# Altium integrated library PLD Supported Devices.IntLib: 344 symbols (part 6 of 6)
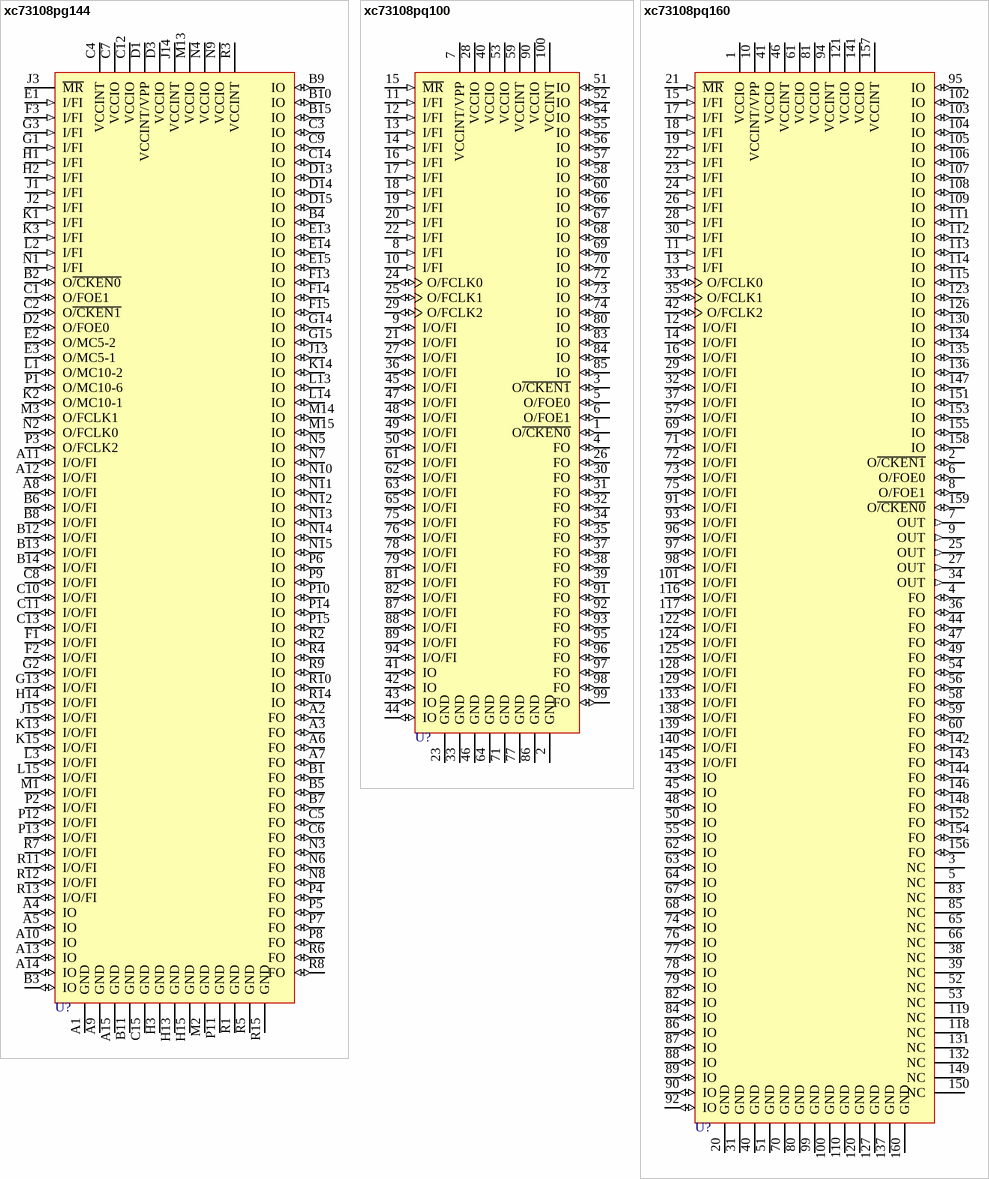
[diagram p23: symbols xc73108pg144 to xc73108pq160]

## xc73108pq160
designator U?
XC73000 CMOS EPLD (108 Macrocell) [SM]; Published: 16-Jul-2002; LatestRevisionDate: 17-Jul-2002; LatestRevisionNote: Re-released for DXP Platform.; Publisher: Altium Limited
footprint QFP28x28-G160/G28N
pins: 1 VCCIO (power), 2 O~{/CKEN1} (io), 3 NC, 4 FO (io), 5 NC, 6 O/FOE0 (io), 7 OUT (out), 8 O/FOE1 (io), 9 OUT (out), 10 VCCINT/VPP (power), 11 I/FI (in), 12 I/O/FI (io), 13 I/FI (in), 14 I/O/FI (io), 15 I/FI (in), 16 I/O/FI (io), 17 I/FI (in), 18 I/FI (in), 19 I/FI (in), 20 GND (power), 21 ~{MR} (in), 22 I/FI (in), 23 I/FI (in), 24 I/FI (in), 25 OUT (out), 26 I/FI (in), 27 OUT (out), 28 I/FI (in), 29 I/O/FI (io), 30 I/FI (in), 31 GND (power), 32 I/O/FI (io), 33 O/FCLK0 (io), 34 OUT (out), 35 O/FCLK1 (io), 36 FO (io), 37 I/O/FI (io), 38 NC, 39 NC, 40 GND (power), 41 VCCIO (power), 42 O/FCLK2 (io), 43 IO (io), 44 FO (io), 45 IO (io), 46 VCCINT (power), 47 FO (io), 48 IO (io), 49 FO (io), 50 IO (io), 51 GND (power), 52 NC, 53 NC, 54 FO (io), 55 IO (io), 56 FO (io), 57 I/O/FI (io), 58 FO (io), 59 FO (io), 60 FO (io), 61 VCCIO (power), 62 IO (io), 63 IO (io), 64 IO (io), 65 NC, 66 NC, 67 IO (io), 68 IO (io), 69 I/O/FI (io), 70 GND (power), 71 I/O/FI (io), 72 I/O/FI (io), 73 I/O/FI (io), 74 IO (io), 75 I/O/FI (io), 76 IO (io), 77 IO (io), 78 IO (io), 79 IO (io), 80 GND (power), 81 VCCIO (power), 82 IO (io), 83 NC, 84 IO (io), 85 NC, 86 IO (io), 87 IO (io), 88 IO (io), 89 IO (io), 90 IO (io), 91 I/O/FI (io), 92 IO (io), 93 I/O/FI (io), 94 VCCINT (power), 95 IO (io), 96 I/O/FI (io), 97 I/O/FI (io), 98 I/O/FI (io), 99 GND (power), 100 GND (power), 101 I/O/FI (io), 102 IO (io), 103 IO (io), 104 IO (io), 105 IO (io), 106 IO (io), 107 IO (io), 108 IO (io), 109 IO (io), 110 GND (power), 111 IO (io), 112 IO (io), 113 IO (io), 114 IO (io), 115 IO (io), 116 I/O/FI (io), 117 I/O/FI (io), 118 NC, 119 NC, 120 GND (power), 121 VCCIO (power), 122 I/O/FI (io), 123 IO (io), 124 I/O/FI (io), 125 I/O/FI (io), 126 IO (io), 127 GND (power), 128 I/O/FI (io), 129 I/O/FI (io), 130 IO (io), 131 NC, 132 NC, 133 I/O/FI (io), 134 IO (io), 135 IO (io), 136 IO (io), 137 GND (power), 138 I/O/FI (io), 139 I/O/FI (io), 140 I/O/FI (io), 141 VCCIO (power), 142 FO (io), 143 FO (io), 144 FO (io), 145 I/O/FI (io), 146 FO (io), 147 IO (io), 148 FO (io), 149 NC, 150 NC, 151 IO (io), 152 FO (io), 153 IO (io), 154 FO (io), 155 IO (io), 156 FO (io), 157 VCCINT (power), 158 IO (io), 159 O~{/CKEN0} (io), 160 GND (power)